# EAGLE library part IRF7329PBF (library CanCubeSat)
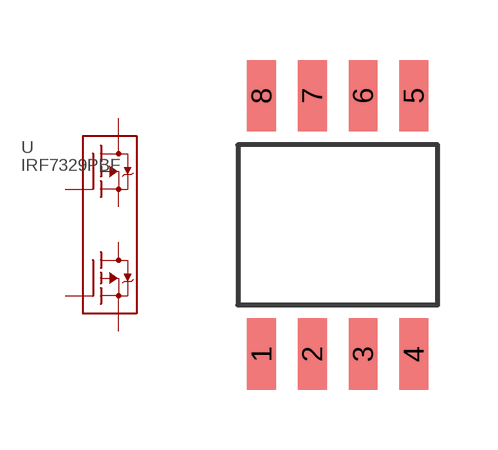
[diagram p32: symbol with the pads of SO8; footprint SO8]

Designator prefix -

## IRF7329PBF  [SO8]
1  S1  pas
2  G1  pas
3  S2  pas
4  G2  pas
5  D2  pas
6  D2  pas
7  D1  pas
8  D1  pas

## Footprint SO8 (pad centres in mm)
smd 0.72 x 1.78: 1 -1.905,-3.23; 2 -0.635,-3.23; 3 0.635,-3.23; 4 1.905,-3.23; 5 1.905,3.23; 6 0.635,3.23; 7 -0.635,3.23; 8 -1.905,3.23